# Altium footprint library 10u_tantalum_1206.PcbLib: 3 footprints
Each footprint in its own frame and in the unit in brackets; x right, y up, seen from the top. Pads: shape width x height; smd on the part's side, far side on the other; paste and mask are expansions set on the pad; w line width, h text height; cw(c..) or ccw(c..) is an arc to the next point about the centre after c.
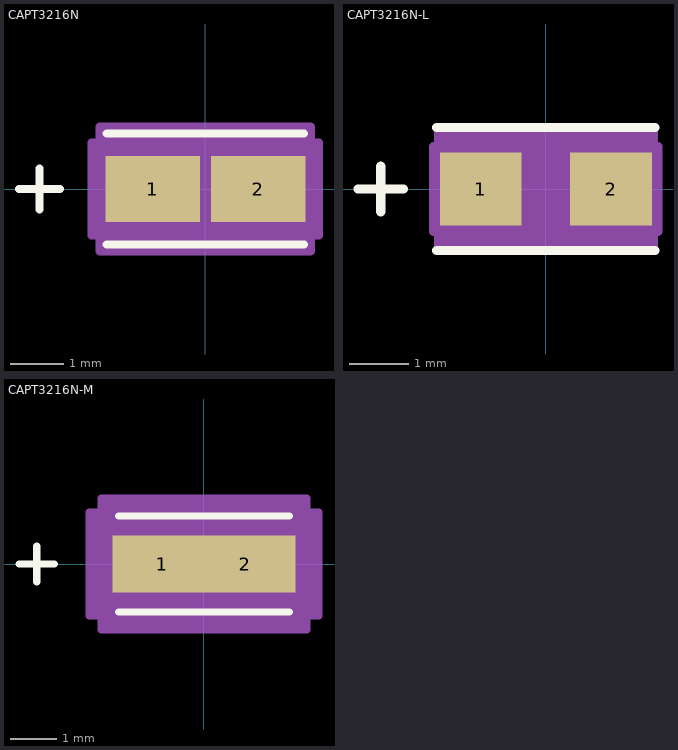
[diagram p0: the footprints below, top view; thin cyan lines are the x and y axes]

## CAPT3216N [mil]
pads (2):
  rect 69x48 smd paste+0 mask+0: 1(-38.5,0) 2(38.5,0)
Top Overlay:
  lines w6: -136,0 -106,0 ; -121,-15 -121,15 ; -72,-40.5 72,-40.5 ; -72,40.5 72,40.5
Mechanical 13:
  lines w1: -136,0 -106,0 ; -121,-15 -121,15 ; -67,-35.5 67,-35.5 67,35.5 -67,35.5 -67,-35.5
Mechanical 15:
  region: -77,-34 -83,-34 -83,34 -77,34 -77,45.5 77,45.5 77,34 83,34 83,-34 77,-34 77,-45.5 -77,-45.5
  lines w6: -83,-34 -83,34 -77,34 -77,45.5 77,45.5 77,34 83,34 83,-34 77,-34 77,-45.5 -77,-45.5 -77,-34 -83,-34
3D body: height 10, standoff 0, extent 0,0 10,10
3D body "CAPT3216N.stp": height 72.99, standoff 0, extent -67,-35.51 67.01,35.52

## CAPT3216N-L [mil]
pads (2):
  rect 54x48 smd paste+0 mask+0: 1(-43,0) 2(43,0)
Top Overlay:
  lines w6: -124,0 -94,0 ; -109,-15 -109,15 ; -72,-40.5 72,-40.5 ; -72,40.5 72,40.5
Mechanical 13:
  lines w1: -124,0 -94,0 ; -109,-15 -109,15 ; -67,-35.5 67,-35.5 67,35.5 -67,35.5 -67,-35.5
Mechanical 15:
  region: -71,-28 -74,-28 -74,28 -71,28 -71,39.5 71,39.5 71,28 74,28 74,-28 71,-28 71,-39.5 -71,-39.5
  lines w6: -74,-28 -74,28 -71,28 -71,39.5 71,39.5 71,28 74,28 74,-28 71,-28 71,-39.5 -71,-39.5 -71,-28 -74,-28
3D body: height 10, standoff 0, extent 0,0 10,10
3D body "CAPT3216N-L.stp": height 72.99, standoff 0, extent -67,-35.5 67.02,35.52

## CAPT3216N-M [mil]
pads (2):
  rect 84x48 smd paste+0 mask+0: 1(-35,0) 2(35,0)
Top Overlay:
  lines w6: -156,0 -126,0 ; -141,-15 -141,15 ; -72,-40.5 72,-40.5 ; -72,40.5 72,40.5
Mechanical 13:
  lines w1: -156,0 -126,0 ; -141,-15 -141,15 ; -67,-35.5 67,-35.5 67,35.5 -67,35.5 -67,-35.5
Mechanical 15:
  region: -87,-44 -97,-44 -97,44 -87,44 -87,55.5 87,55.5 87,44 97,44 97,-44 87,-44 87,-55.5 -87,-55.5
  lines w6: -97,-44 -97,44 -87,44 -87,55.5 87,55.5 87,44 97,44 97,-44 87,-44 87,-55.5 -87,-55.5 -87,-44 -97,-44
3D body: height 10, standoff 0, extent 0,0 10,10
3D body "CAPT3216N-M.stp": height 72.99, standoff 0, extent -67,-35.5 67.02,35.52